# Altium schematic symbol library transistor.SchLib: 6 symbols
Pins are listed as number, name and electrical type; pins without a type are passive.

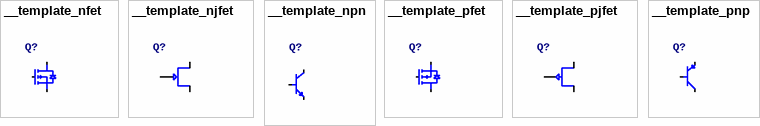
[diagram p0: symbols __template_nfet to __template_pnp]

## __template_nfet
designator Q?
pins: 1, 2, 3

## __template_njfet
designator Q?
pins: 1 D, 2 S, 3 G

## __template_npn
designator Q?
pins: 1 B, 2 E, 3 C

## __template_pfet
designator Q?
pins: 1, 2, 3

## __template_pjfet
designator Q?
pins: 1 D, 2 S, 3 G

## __template_pnp
designator Q?
pins: 1 B, 2 E, 3 C